# Altium schematic symbol library SRV05-4MR6T1G.SchLib: 1 symbol
Pins are listed as number, name and electrical type; pins without a type are passive.

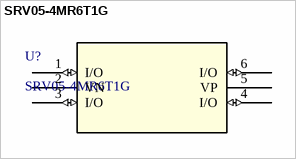
[diagram p0: symbol SRV05-4MR6T1G]

## SRV05-4MR6T1G
designator U?
Description; Manufacturer_Name: onsemi; Copyright: Copyright (C) 2025 Ultra Librarian. All rights reserved.; Manufacturer_Part_Number: SRV05-4MR6T1G; RefDes: RefDes; Type: Type
footprint TSOP6_3P1X1P7_ONS
pins: 1 I/O (io), 2 VN (power), 3 I/O (io), 4 I/O (io), 5 VP (power), 6 I/O (io)